# EAGLE library part QBIT2-WIREBOND-CRYO1 (library meng)
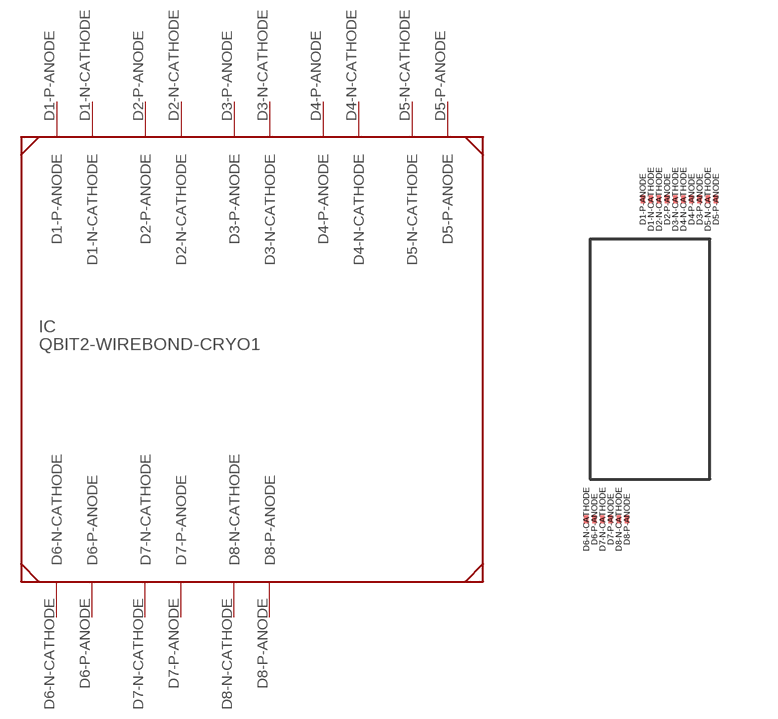
[diagram p10: symbol with the pads of QBIT2-WIREBOND-CRYO1; footprint QBIT2-WIREBOND-CRYO1]

Designator prefix IC

## QBIT2-WIREBOND-CRYO1  [QBIT2-WIREBOND-CRYO1]
D1-N-CATHODE  D1-N-CATHODE
D1-P-ANODE  D1-P-ANODE
D2-N-CATHODE  D2-N-CATHODE
D2-P-ANODE  D2-P-ANODE
D3-N-CATHODE  D3-N-CATHODE
D3-P-ANODE  D3-P-ANODE
D4-N-CATHODE  D4-N-CATHODE
D4-P-ANODE  D4-P-ANODE
D5-N-CATHODE  D5-N-CATHODE
D5-P-ANODE  D5-P-ANODE
D6-N-CATHODE  D6-N-CATHODE
D6-P-ANODE  D6-P-ANODE
D7-N-CATHODE  D7-N-CATHODE
D7-P-ANODE  D7-P-ANODE
D8-N-CATHODE  D8-N-CATHODE
D8-P-ANODE  D8-P-ANODE

## Footprint QBIT2-WIREBOND-CRYO1 (pad centres in mm)
smd 0.102 x 0.203: D1-N-CATHODE 0.02,4; D1-P-ANODE -0.183,4; D2-N-CATHODE 0.223,4; D2-P-ANODE 0.426,4; D3-N-CATHODE 0.63,4; D3-P-ANODE 1.239,4; D4-N-CATHODE 0.833,4; D4-P-ANODE 1.036,4; D5-N-CATHODE 1.442,4; D5-P-ANODE 1.646,4; D6-N-CATHODE -1.598,-4; D6-P-ANODE -1.394,-4; D7-N-CATHODE -1.191,-4; D7-P-ANODE -0.988,-4; D8-N-CATHODE -0.785,-4; D8-P-ANODE -0.582,-4